# EAGLE library part OSTVN08A150 (library Parts)
OSTVN08A150 0.1" Screw Terminal, 8 Position On Shore Technology, Inc.
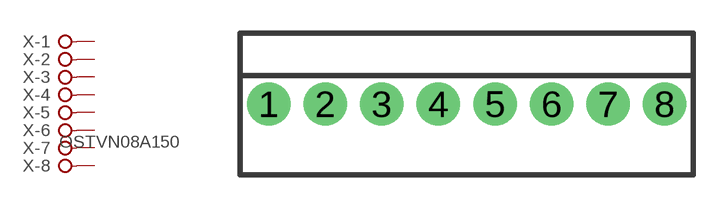
[diagram p5: symbol with the pads of OSTVN08; footprint OSTVN08]

Designator prefix X; gates -1=KL -2=KL -3=KL -4=KL -5=KL -6=KL -7=KL -8=KL+V-1

## OSTVN08A150  [OSTVN08]
1  -1:KL  pas
2  -2:KL  pas
3  -3:KL  pas
4  -4:KL  pas
5  -5:KL  pas
6  -6:KL  pas
7  -7:KL  pas
8  -8:KL  pas

## Footprint OSTVN08 (pad centres in mm)
.100" (2.54mm) Center Header - 8 Pin
drill 1.3: 1 -8.89,0; 2 -6.35,0; 3 -3.81,0; 4 -1.27,0; 5 1.27,0; 6 3.81,0; 7 6.35,0; 8 8.89,0